# Altium footprint library PCBLib.PcbLib: 19 footprints (part 2 of 2)
Each footprint in its own frame and in the unit in brackets; x right, y up, seen from the top. Pads: shape width x height; smd on the part's side, far side on the other; paste and mask are expansions set on the pad; w line width, h text height; cw(c..) or ccw(c..) is an arc to the next point about the centre after c.
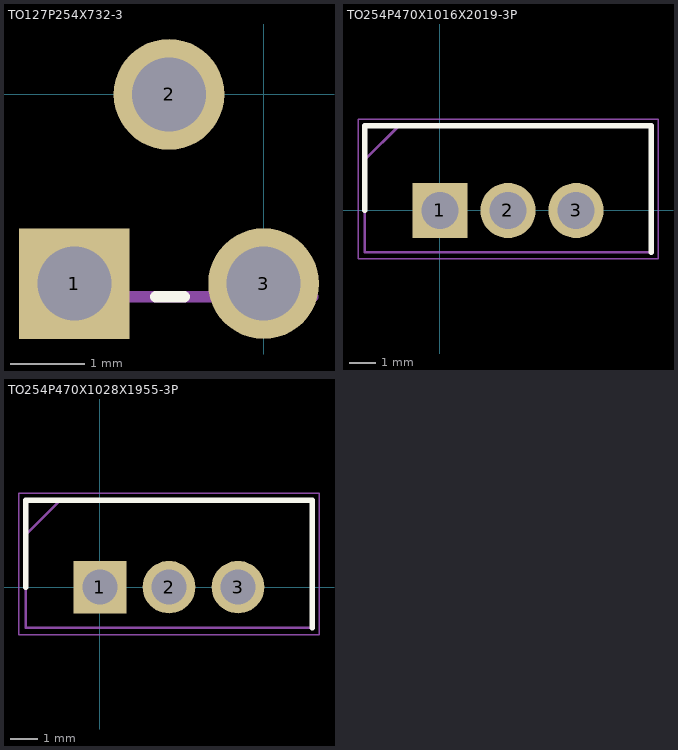
[diagram p1: the footprints below, top view; thin cyan lines are the x and y axes]

## TO127P254X732-3 [mil]
pads (3):
  rect 58.5x58.5 hole 39: 1(-100,-100)
  round 58.5 hole 39: 2(-50,0) 3(0,-100)
Top Overlay:
  lines w6: -57,-107 -42,-107
Mechanical 13:
  lines w6: -126,-107 26,-107

## TO254P470X1016X2019-3P [mm]
pads (3):
  rect 2.055x2.055 hole 1.37: 1(0,0)
  round 2.055 hole 1.37: 2(2.535,0) 3(5.07,0)
Top Overlay:
  lines w0.2: -2.8,0 -2.8,3.15 7.87,3.15 7.87,-1.55
Mechanical 13:
  lines w0.1: -2.8,1.882 -1.532,3.15 ; -2.8,-1.55 -2.8,3.15 7.87,3.15 7.87,-1.55 -2.8,-1.55
Mechanical 15:
  lines w0.05: -3.05,-1.8 -3.05,3.4 8.12,3.4 8.12,-1.8 -3.05,-1.8
3D body "LM7805ACT.stp": height 18.54, standoff -17.53, extent -2.545,-1.55 7.615,3.15

## TO254P470X1028X1955-3P [mm]
pads (3):
  rect 1.935x1.935 hole 1.29: 1(0,0)
  round 1.935 hole 1.29: 2(2.54,0) 3(5.08,0)
Top Overlay:
  lines w0.2: -2.73,0 -2.73,3.2 7.81,3.2 7.81,-1.5
Mechanical 13:
  lines w0.1: -2.73,1.93 -1.46,3.2 ; -2.73,-1.5 -2.73,3.2 7.81,3.2 7.81,-1.5 -2.73,-1.5
Mechanical 15:
  lines w0.05: -2.98,-1.75 -2.98,3.45 8.06,3.45 8.06,-1.75 -2.98,-1.75
3D body "LM7812CT.stp": height 18.66, standoff -17.27, extent -2.602,-1.5 7.682,3.2